# EAGLE library part MTA07 (library con-amp)
AMP connector
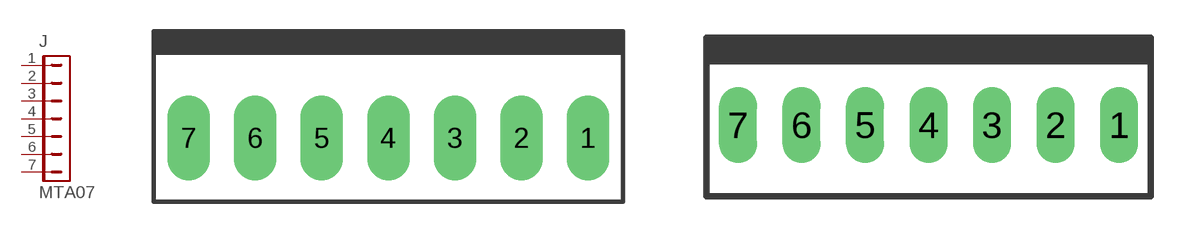
[diagram p112: symbol with the pads of MTA07-156; footprints MTA07-156, MTA07-100]

Designator prefix J

## MTA07-156  [MTA07-156]
1  1  pas
2  2  pas
3  3  pas
4  4  pas
5  5  pas
6  6  pas
7  7  pas

## MTA07-100  [MTA07-100]
Pads as for MTA07-156

## Footprint MTA07-156 (pad centres in mm)
MTA Connector - 0.156" pitch
drill 1.676 long: 1 11.887,0; 2 7.925,0; 3 3.962,0; 4 0,0; 5 -3.962,0; 6 -7.925,0; 7 -11.887,0

## Footprint MTA07-100 (pad centres in mm)
MTA Connector - 0.1" pitch
drill 1.016 long: 1 7.62,0; 2 5.08,0; 3 2.54,0; 4 0,0; 5 -2.54,0; 6 -5.08,0; 7 -7.62,0